# Altium footprint library ECU_Components.PcbLib: 6 footprints
Each footprint in its own frame and in the unit in brackets; x right, y up, seen from the top. Pads: shape width x height; smd on the part's side, far side on the other; paste and mask are expansions set on the pad; w line width, h text height; cw(c..) or ccw(c..) is an arc to the next point about the centre after c.
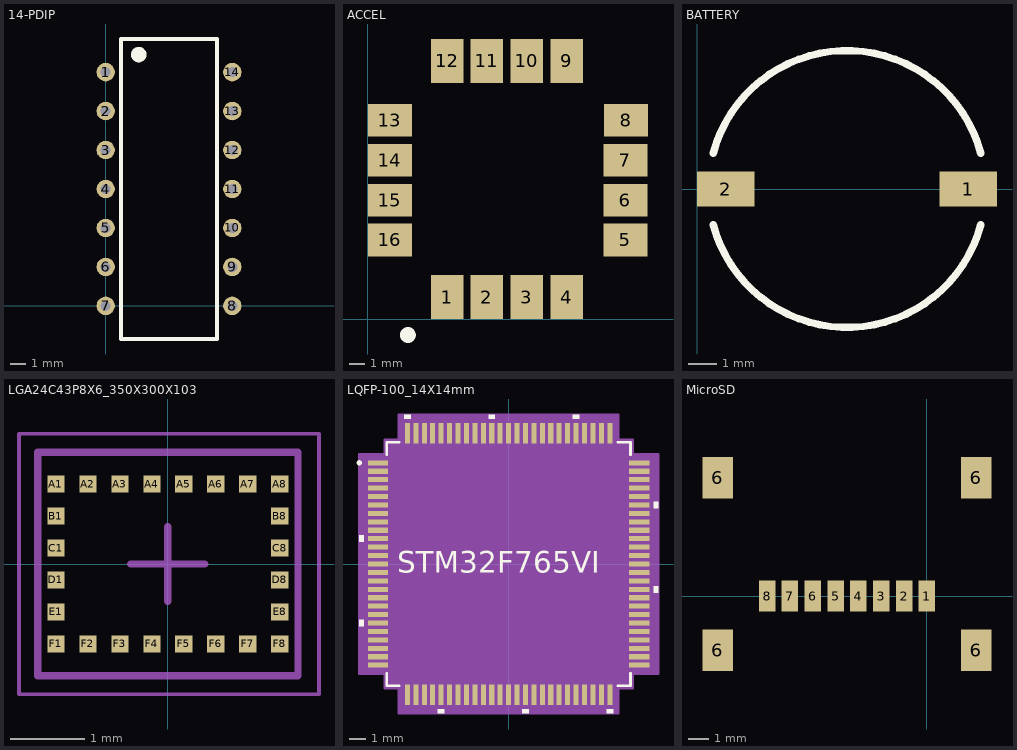
[diagram p0: the footprints below, top view; thin cyan lines are the x and y axes]

## 14-PDIP [mm]
pads (14):
  round 1.2 hole 0.65: 1(0,15.24) 2(0,12.7) 3(0,10.16) 4(0,7.62) 5(0,5.08) 6(0,2.54) 7(0,0) 8(8.255,0) 9(8.255,2.54) 10(8.255,5.08) 11(8.255,7.62) 12(8.255,10.16) 13(8.255,12.7) 14(8.255,15.24)
Top Overlay:
  circle w0.5: c2.159,16.383 r0.254
  lines w0.254: 1,-2.16 7.255,-2.16 7.255,17.4 1,17.4 1,-2.16

## ACCEL [mm]
pads (16):
  rect 2.08x2.8 smd: 1(5.04,1.4) 2(7.57,1.4) 3(10.12,1.4) 4(12.66,1.4) 9(12.66,16.44) 10(10.12,16.44) 11(7.57,16.44) 12(5.04,16.44)
  rect 2.8x2.08 smd: 5(16.4,5.04) 6(16.4,7.57) 7(16.4,10.12) 8(16.44,12.66) 13(1.4,12.66) 14(1.4,10.12) 15(1.4,7.57) 16(1.4,5.04)
Top Overlay:
  circle w0.5: c2.54,-1.016 r0.254

## BATTERY [mm]
pads (2):
  rect 2x1.2 smd: 1(9.4,0) 2(1,0)
Top Overlay:
  lines w0.254: 0.564,-1.242 ccw(c5.2,0) 9.836,-1.242 ; 0.564,1.242 cw(c5.2,0) 9.836,1.242

## LGA24C43P8X6_350X300X103 [mm] "LGA, 24-Leads, Body 3.50x3.00mmx1.03mm, Pitch 0.43mm"
height 1.03
pads (24):
  rect 0.23x0.23 smd: A1(-1.505,1.075) A2(-1.075,1.075) A3(-0.645,1.075) A4(-0.215,1.075) A5(0.215,1.075) A6(0.645,1.075) A7(1.075,1.075) A8(1.505,1.075) B1(-1.505,0.645) B8(1.505,0.645) C1(-1.505,0.215) C8(1.505,0.215) D1(-1.505,-0.215) D8(1.505,-0.215) E1(-1.505,-0.645) E8(1.505,-0.645) F1(-1.505,-1.075) F2(-1.075,-1.075) F3(-0.645,-1.075) F4(-0.215,-1.075) F5(0.215,-1.075) F6(0.645,-1.075) F7(1.075,-1.075) F8(1.505,-1.075)
Mechanical 13:
  lines w0.1: -1.75,-1.5 -1.75,1.5 1.75,1.5 1.75,-1.5 -1.75,-1.5
Mechanical 15:
  lines w0.05: -2,-1.75 -2,1.75 2.032,1.75 2.032,-1.75 -2,-1.75
  lines w0.1: -0.5,0 0.5,0 ; 0,-0.5 0,0.5
3D body: height 1.03, standoff 0.13, extent -1.75,-1.5 1.75,1.5

## LQFP-100_14X14mm [mm]
pads (100):
  rect 1.2x0.3 smd: 1(-7.75,6) 2(-7.75,5.5) 3(-7.75,5) 4(-7.75,4.5) 5(-7.75,4) 6(-7.75,3.5) 7(-7.75,3) 8(-7.75,2.5) 9(-7.75,2) 10(-7.75,1.5) 11(-7.75,1) 12(-7.75,0.5) 13(-7.75,0) 14(-7.75,-0.5) 15(-7.75,-1) 16(-7.75,-1.5) 17(-7.75,-2) 18(-7.75,-2.5) 19(-7.75,-3) 20(-7.75,-3.5) 21(-7.75,-4) 22(-7.75,-4.5) 23(-7.75,-5) 24(-7.75,-5.5) 25(-7.75,-6) 51(7.75,-6) 52(7.75,-5.5) 53(7.75,-5) 54(7.75,-4.5) 55(7.75,-4) 56(7.75,-3.5) 57(7.75,-3) 58(7.75,-2.5) 59(7.75,-2) 60(7.75,-1.5) 61(7.75,-1) 62(7.75,-0.5) 63(7.75,0) 64(7.75,0.5) 65(7.75,1) 66(7.75,1.5) 67(7.75,2) 68(7.75,2.5) 69(7.75,3) 70(7.75,3.5) 71(7.75,4) 72(7.75,4.5) 73(7.75,5) 74(7.75,5.5) 75(7.75,6)
  rect 0.3x1.2 smd: 26(-6,-7.75) 27(-5.5,-7.75) 28(-5,-7.75) 29(-4.5,-7.75) 30(-4,-7.75) 31(-3.5,-7.75) 32(-3,-7.75) 33(-2.5,-7.75) 34(-2,-7.75) 35(-1.5,-7.75) 36(-1,-7.75) 37(-0.5,-7.75) 38(0,-7.75) 39(0.5,-7.75) 40(1,-7.75) 41(1.5,-7.75) 42(2,-7.75) 43(2.5,-7.75) 44(3,-7.75) 45(3.5,-7.75) 46(4,-7.75) 47(4.5,-7.75) 48(5,-7.75) 49(5.5,-7.75) 50(6,-7.75) 76(6,7.75) 77(5.5,7.75) 78(5,7.75) 79(4.5,7.75) 80(4,7.75) 81(3.5,7.75) 82(3,7.75) 83(2.5,7.75) 84(2,7.75) 85(1.5,7.75) 86(1,7.75) 87(0.5,7.75) 88(0,7.75) 89(-0.5,7.75) 90(-1,7.75) 91(-1.5,7.75) 92(-2,7.75) 93(-2.5,7.75) 94(-3,7.75) 95(-3.5,7.75) 96(-4,7.75) 97(-4.5,7.75) 98(-5,7.75) 99(-5.5,7.75) 100(-6,7.75)
Top Overlay:
  circle w0.152: c-8.854,6 r0.076
  region: -8.604,1.69 -8.858,1.69 -8.858,1.309 -8.604,1.309
  region: -8.604,-3.31 -8.858,-3.31 -8.858,-3.691 -8.604,-3.691
  region: -3.809,-8.604 -4.19,-8.604 -4.19,-8.858 -3.809,-8.858
  region: 1.191,-8.604 0.81,-8.604 0.81,-8.858 1.191,-8.858
  region: 6.191,-8.604 5.81,-8.604 5.81,-8.858 6.191,-8.858
  region: 8.604,-1.309 8.858,-1.309 8.858,-1.69 8.604,-1.69
  region: 8.604,3.691 8.858,3.691 8.858,3.31 8.604,3.31
  region: 4.19,8.604 3.809,8.604 3.809,8.858 4.19,8.858
  region: -0.81,8.604 -1.191,8.604 -1.191,8.858 -0.81,8.858
  region: -5.81,8.604 -6.191,8.604 -6.191,8.858 -5.81,8.858
  lines w0.152: -7.227,-6.483 -7.227,-7.227 -6.483,-7.227 ; -7.227,6.483 -7.227,7.227 -6.483,7.227 ; 6.483,-7.227 7.227,-7.227 7.227,-6.483 ; 6.483,7.227 7.227,7.227 7.227,6.483
  text "STM32F765VI" at -6.604,-0.508 h1.27
Mechanical 13:
  circle w0: c-6.515,6 r0.076
Mechanical 15:
  region: -6.508,-7.354 -7.354,-7.354 -7.354,-6.508 -8.858,-6.508 -8.858,6.508 -7.354,6.508 -7.354,7.354 -6.508,7.354 -6.508,8.858 6.508,8.858 6.508,7.354 7.354,7.354 7.354,6.508 8.858,6.508 8.858,-6.508 7.354,-6.508 7.354,-7.354 6.508,-7.354 6.508,-8.858 -6.508,-8.858
  lines w0.152: -8.858,-6.508 -7.354,-6.508 -7.354,-7.354 -6.508,-7.354 -6.508,-8.858 6.508,-8.858 6.508,-7.354 7.354,-7.354 7.354,-6.508 8.858,-6.508 8.858,6.508 7.354,6.508 7.354,7.354 6.508,7.354 6.508,8.858 -6.508,8.858 -6.508,7.354 -7.354,7.354 -7.354,6.508 -8.858,6.508 -8.858,-6.508
Multi-Layer:
  text "Copyright (C) 2016 Accelerated Designs. All rights reserved" at 0,0 h0.03

## MicroSD [mm]
pads (12):
  rect 0.8x1.5 smd: 1(0,0) 2(-1.1,0) 3(-2.2,0) 4(-3.3,0) 5(-4.4,0) 6(-5.5,0) 7(-6.6,0) 8(-7.7,0)
  rect 1.45x2 smd: 6(-10.08,-2.6) 6(-10.08,5.7) 6(2.38,-2.6) 6(2.38,5.7)